# Altium footprint library PCF8574T_IO_Expanders.PcbLib: 1 footprints
Each footprint in its own frame and in the unit in brackets; x right, y up, seen from the top. Pads: shape width x height; smd on the part's side, far side on the other; paste and mask are expansions set on the pad; w line width, h text height; cw(c..) or ccw(c..) is an arc to the next point about the centre after c.
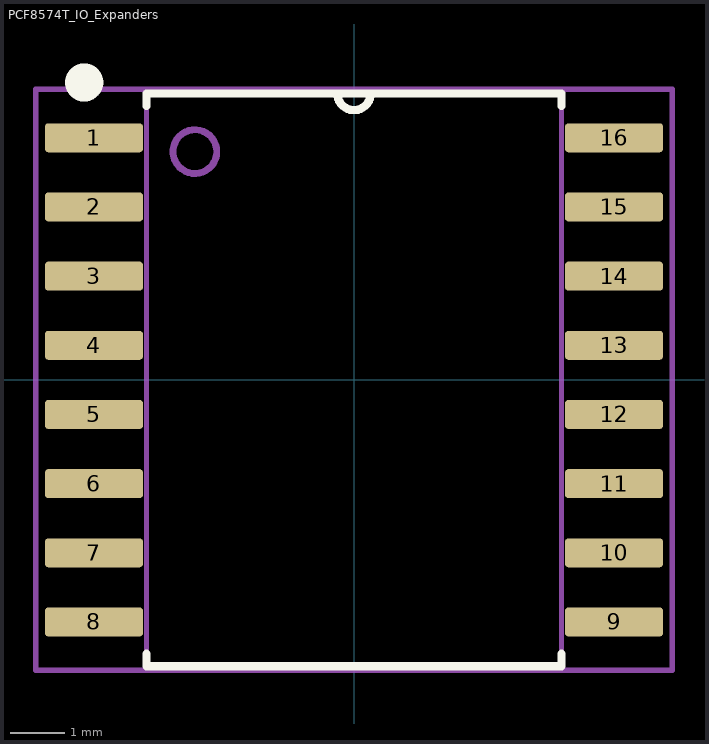
[diagram p0: the footprint, top view; thin cyan lines are the x and y axes]

## PCF8574T_IO_Expanders [mil]
pads (16):
  rrect25% 71x21 smd: 1(-188,175) 2(-188,125) 3(-188,75) 4(-188,25) 5(-188,-25) 6(-188,-75) 7(-188,-125) 8(-188,-175) 9(188,-175) 10(188,-125) 11(188,-75) 12(188,-25) 13(188,25) 14(188,75) 15(188,125) 16(188,175)
Top Overlay:
  circle w19.68: c-195,215 r3.94
  lines w6: -150,-198 -150,-207 150,-207 150,-198 ; -150,198 -150,207 -12,207 ; 150,198 150,207 12,207 ; -12,207 ccw(c0,207) 12,207 ; -12,207 12,207
Mechanical 1:
  circle w5: c-115,165 r15.81
  lines w3.94: -12,207 ccw(c0,207) 12,207 ; -12,207 12,207 ; -12,207 -150,207 -150,-207 150,-207 150,207 12,207 ; -230,-210 230,-210 230,210 -230,210 -230,-210
  text ".Designator" at 0,7.41 h39.37
Mechanical 15:
  text "+" at -13.12,-19.68 h39.37
3D body "step_temp.STEP": height 104.33, standoff 0, extent -203.25,-202.76 203.25,202.76